# Altium footprint library Connectors.PcbLib: 21 footprints (part 2 of 2)
Each footprint in its own frame and in the unit in brackets; x right, y up, seen from the top. Pads: shape width x height; smd on the part's side, far side on the other; paste and mask are expansions set on the pad; w line width, h text height; cw(c..) or ccw(c..) is an arc to the next point about the centre after c.
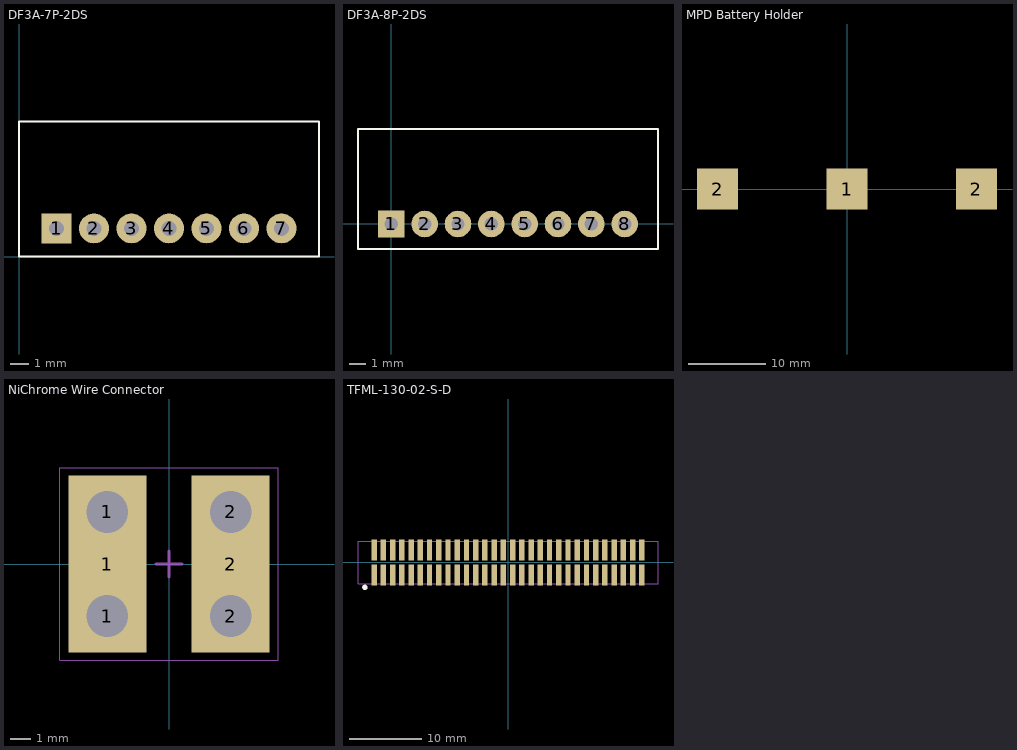
[diagram p1: the footprints below, top view; thin cyan lines are the x and y axes]

## DF3A-7P-2DS [mm] "7 Pin, Right Angle, Through Hole Connector"
height 5
pads (7):
  rect 1.6x1.6 hole 0.8: 1(2,1.5)
  round 1.6 hole 0.8: 2(4,1.5) 3(6,1.5) 4(8,1.5) 5(10,1.5) 6(12,1.5) 7(14,1.5)
Top Overlay:
  lines w0.127: 0,0 16,0 16,7.2 0,7.2 0,0

## DF3A-8P-2DS [mm] "Hirose 8 Pin, Right Angle Connector"
height 5
pads (8):
  rect 1.6x1.6 hole 0.8: 1(0,0)
  round 1.6 hole 0.8: 2(2,0) 3(4,0) 4(6,0) 5(8,0) 6(10,0) 7(12,0) 8(14,0)
Top Overlay:
  lines w0.127: -2,-1.5 -2,5.7 16,5.7 16,-1.5 -2,-1.5

## MPD Battery Holder [mm] "Coin Cell Battery Holder"
height 4.18
pads (3):
  rect 5.3x5.3 smd: 1(0,0) 2(-16.73,0) 2(16.73,0)
3D body: height 4.18, standoff 0, extent -13.6,-13.82 13.6,13.82

## NiChrome Wire Connector [mil] "Two port NiChrome Wire Connector"
height 39.37
pads (6):
  round 100 hole 80: 1(-118.42,-100) 1(-118.42,100) 2(118.42,-100) 2(118.42,100)
  rect 150x340 smd: 1(-118.42,0) 2(118.42,0)
Mechanical 15:
  lines w2: -210,-185 -210,185 210,185 210,-185 -210,-185
  lines w5: -25,0 25,0 ; 0,-25 0,25

## TFML-130-02-S-D [mm] "60 pin, Surface Mount, Vertical, Male Pin Header, 1.27mm Pitch"
height 5.59
pads (60):
  rect 0.74x2.92 smd: 1(-18.415,-1.715) 2(-18.415,1.715) 3(-17.145,-1.715) 4(-17.145,1.715) 5(-15.875,-1.715) 6(-15.875,1.715) 7(-14.605,-1.715) 8(-14.605,1.715) 9(-13.335,-1.715) 10(-13.335,1.715) 11(-12.065,-1.715) 12(-12.065,1.715) 13(-10.795,-1.715) 14(-10.795,1.715) 15(-9.525,-1.715) 16(-9.525,1.715) 17(-8.255,-1.715) 18(-8.255,1.715) 19(-6.985,-1.715) 20(-6.985,1.715) 21(-5.715,-1.715) 22(-5.715,1.715) 23(-4.445,-1.715) 24(-4.445,1.715) 25(-3.175,-1.715) 26(-3.175,1.715) 27(-1.905,-1.715) 28(-1.905,1.715) 29(-0.635,-1.715) 30(-0.635,1.715) 31(0.635,-1.715) 32(0.635,1.715) 33(1.905,-1.715) 34(1.905,1.715) 35(3.175,-1.715) 36(3.175,1.715) 37(4.445,-1.715) 38(4.445,1.715) 39(5.715,-1.715) 40(5.715,1.715) 41(6.985,-1.715) 42(6.985,1.715) 43(8.255,-1.715) 44(8.255,1.715) 45(9.525,-1.715) 46(9.525,1.715) 47(10.795,-1.715) 48(10.795,1.715) 49(12.065,-1.715) 50(12.065,1.715) 51(13.335,-1.715) 52(13.335,1.715) 53(14.605,-1.715) 54(14.605,1.715) 55(15.875,-1.715) 56(15.875,1.715) 57(17.145,-1.715) 58(17.145,1.715) 59(18.415,-1.715) 60(18.415,1.715)
Top Overlay:
  circle w0.381: c-19.685,-3.429 r0.18
Mechanical 1:
  lines w0.127: -20.635,-2.92 20.635,-2.92 20.635,2.92 -20.635,2.92 -20.635,-2.92
3D body: height 5.59, standoff 0, extent -20.635,-2.92 20.635,2.92